# Altium integrated library Linear Technology Power Management Hot Swap Controllers.IntLib: 992 symbols (part 91 of 93)
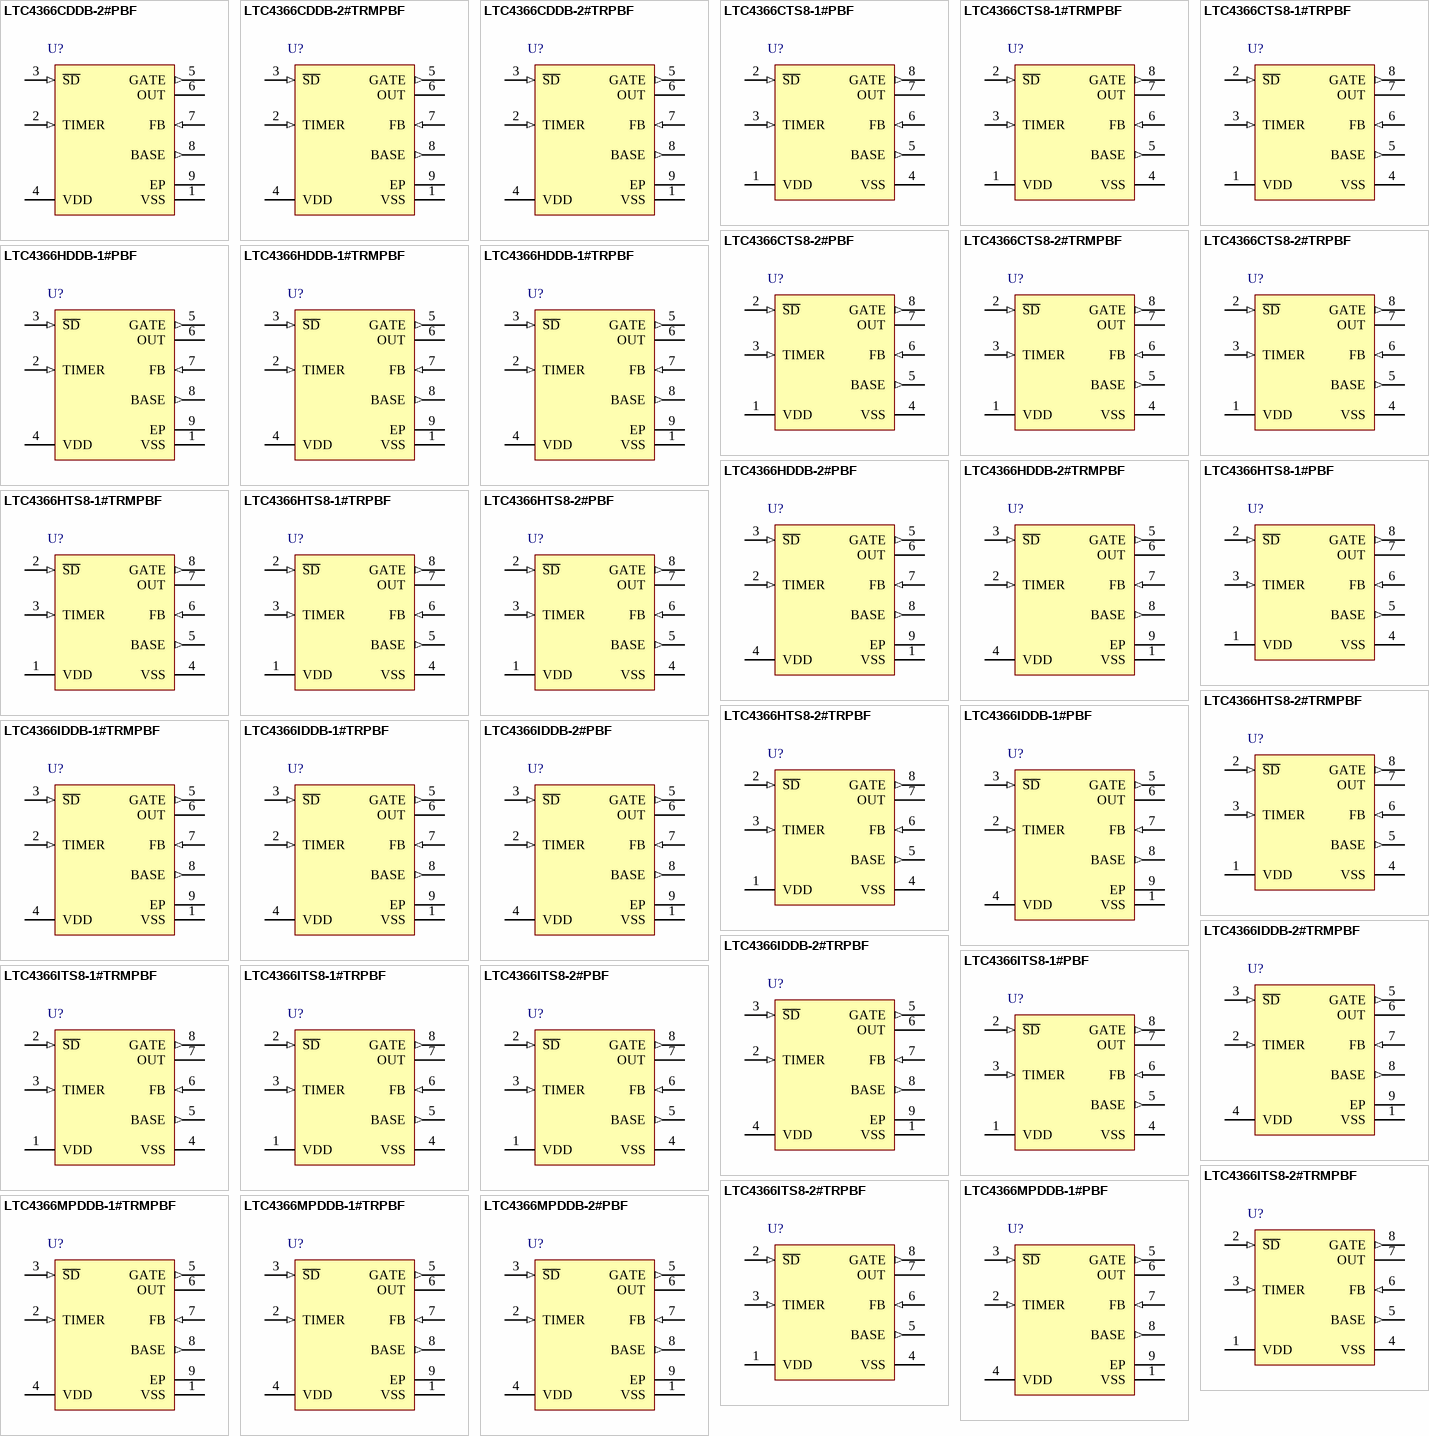
[diagram p127: symbols LTC4366CDDB-2#PBF to LTC4366MPDDB-2#PBF]

## LTC4366CTS8-2#TRMPBF
designator U?
High Voltage Surge Stopper, 9 to Over 500 V Vin, 8-pin SOT23 (TS8-8), 0 to 70 degC, Pb-Free, Mini Tape and Reel; Manufacturer: Linear Technology; PartNumber: LTC4366CTS8-2#TRMPBF; Circuit Breakers(#): 1; Extended Temp: C, I, H, MP; Fast Comparator: no; DatasheetVersion: Rev. C; PackageVersion: Rev. A, 08/2010; PackageReference: TS8-8; PackageDescription: 8-Pin Plastic TSOT-23, Body 2.9 x 1.63 mm, Pitch 0.65 mm; Supplier 1: Digi-Key; Supplier Part Number 1: LTC4366CTS8-2#TRMPBFTR-ND; Supplier 2: Digi-Key; Supplier Part Number 2: LTC4366CTS8-2#TRMPBFCT-ND; Supplier 3: Digi-Key; Supplier Part Number 3: LTC4366CTS8-2#TRMPBFDKR-ND; Supplier 4: Farnell; Supplier Part Number 4: 2097909; Packing: Mini Tape and Reel; Power Good: no; RoHS: TRUE; Vin Range: 9 to Over 500 V; Mounting Technology: Surface Mount; Code_JEDEC: MO-193; ComponentLink1Description: Manufacturer URL; ComponentLink1URL: http://www.linear.com/; ComponentLink2Description: Datasheet; ComponentLink2URL: http://cds.linear.com/docs/en/datasheet/436612fc.pdf; ComponentLink3Description: Package Specification; ComponentLink3URL: http://cds.linear.com/docs/en/packaging/SOT_8_05-08-1637.pdf
footprint LT-TS8-8-TSOT-23_V (SOT23, 8-Leads, Body 2.9x1.75mm, Pitch 0.65mm)
pins: 1 VDD (power) "Start-Up Supply. Supply input for 7.5uA start-up current source that charges the gate of the external N-channel MOSFET. Also provides supply for timer and logic circuits active when the external MOSFET is off. This pin is (See Datasheet)", 2 ~{SD} (in) "Shutdown Comparator Input. Tie to VDD if unused. Connect pin to a limited current pull down created by adding a resistor in series with an open-drain or open-collector pull-down transistor. Activating the external pull down (See Datasheet)", 3 TIMER (in) "Timer Input. Leave this pin open for a 1us overvoltage regulation period before fault off. Connect a capacitor between this pin and VSS to set a 278ms/uF duration for overvoltage regulation before the switch is turned off. (See Datasheet)", 4 VSS (power) "Device Return and Substrate. The capacitors on the TIMER and OUT pins should be returned to this pin.", 5 BASE (out) "Base Driver Output for External PNP Shunt Regulator. This pin is connected to the anode of an internal 6.2V Zener with the cathode tied to OUT. In cases where lower Q current is desired but a large VSS resistor is (See Datasheet)", 6 FB (in) "Overvoltage Regulation Amplifier Feedback Input. Connect this pin to an external resistive divider from OUT to ground. The overvoltage regulation amplifier controls the gate of the external N-channel MOSFET to regulate the (See Datasheet)", 7 OUT (power) "Charge Pump and Overvoltage Regulation Amplifier Supply Voltage. Supply input for floating circuitry powered from the MOSFET source. Once the OUT voltage is above 4.75V (UVLO2), the charge pump will turn on and draw power (See Datasheet)", 8 GATE (out) "Gate Drive for External N-Channel MOSFET. During start-up an internal 7.5uA current source charges the gate of the external N-channel MOSFET from the VDD pin. Once the OUT voltage is above VSS by 4.75V, the charge pump will (See Datasheet)"

## LTC4366CTS8-2#TRPBF
designator U?
High Voltage Surge Stopper, 9 to Over 500 V Vin, 8-pin SOT23 (TS8-8), 0 to 70 degC, Pb-Free, Tape and Reel; Manufacturer: Linear Technology; PartNumber: LTC4366CTS8-2#TRPBF; Circuit Breakers(#): 1; Extended Temp: C, I, H, MP; Fast Comparator: no; DatasheetVersion: Rev. C; PackageVersion: Rev. A, 08/2010; PackageReference: TS8-8; PackageDescription: 8-Pin Plastic TSOT-23, Body 2.9 x 1.63 mm, Pitch 0.65 mm; Supplier 1: Digi-Key; Supplier Part Number 1: LTC4366CTS8-2#TRPBF-ND; Packing: Tape and Reel; Power Good: no; RoHS: TRUE; Vin Range: 9 to Over 500 V; Mounting Technology: Surface Mount; Code_JEDEC: MO-193; ComponentLink1Description: Manufacturer URL; ComponentLink1URL: http://www.linear.com/; ComponentLink2Description: Datasheet; ComponentLink2URL: http://cds.linear.com/docs/en/datasheet/436612fc.pdf; ComponentLink3Description: Package Specification; ComponentLink3URL: http://cds.linear.com/docs/en/packaging/SOT_8_05-08-1637.pdf
footprint LT-TS8-8-TSOT-23_V (SOT23, 8-Leads, Body 2.9x1.75mm, Pitch 0.65mm)
pins: 1 VDD (power) "Start-Up Supply. Supply input for 7.5uA start-up current source that charges the gate of the external N-channel MOSFET. Also provides supply for timer and logic circuits active when the external MOSFET is off. This pin is (See Datasheet)", 2 ~{SD} (in) "Shutdown Comparator Input. Tie to VDD if unused. Connect pin to a limited current pull down created by adding a resistor in series with an open-drain or open-collector pull-down transistor. Activating the external pull down (See Datasheet)", 3 TIMER (in) "Timer Input. Leave this pin open for a 1us overvoltage regulation period before fault off. Connect a capacitor between this pin and VSS to set a 278ms/uF duration for overvoltage regulation before the switch is turned off. (See Datasheet)", 4 VSS (power) "Device Return and Substrate. The capacitors on the TIMER and OUT pins should be returned to this pin.", 5 BASE (out) "Base Driver Output for External PNP Shunt Regulator. This pin is connected to the anode of an internal 6.2V Zener with the cathode tied to OUT. In cases where lower Q current is desired but a large VSS resistor is (See Datasheet)", 6 FB (in) "Overvoltage Regulation Amplifier Feedback Input. Connect this pin to an external resistive divider from OUT to ground. The overvoltage regulation amplifier controls the gate of the external N-channel MOSFET to regulate the (See Datasheet)", 7 OUT (power) "Charge Pump and Overvoltage Regulation Amplifier Supply Voltage. Supply input for floating circuitry powered from the MOSFET source. Once the OUT voltage is above 4.75V (UVLO2), the charge pump will turn on and draw power (See Datasheet)", 8 GATE (out) "Gate Drive for External N-Channel MOSFET. During start-up an internal 7.5uA current source charges the gate of the external N-channel MOSFET from the VDD pin. Once the OUT voltage is above VSS by 4.75V, the charge pump will (See Datasheet)"

## LTC4366HDDB-1#PBF
designator U?
High Voltage Surge Stopper, 9 to Over 500 V Vin, 8-pin SON (DDB-8), -40 to 125 degC, Pb-Free; Manufacturer: Linear Technology; PartNumber: LTC4366HDDB-1#PBF; Circuit Breakers(#): 1; Extended Temp: C, I, H, MP; Fast Comparator: no; DatasheetVersion: Rev. C; PackageVersion: Rev. B, 06/2010; PackageReference: DDB-8; PackageDescription: 8-Pin Plastic DFN, Body 3 x 2 mm, Pitch 0.5 mm; Supplier 1: Newark; Supplier Part Number 1: 78T3401; Power Good: no; RoHS: TRUE; Vin Range: 9 to Over 500 V; Mounting Technology: Surface Mount; Code_JEDEC: MO-229; ComponentLink1Description: Manufacturer URL; ComponentLink1URL: http://www.linear.com/; ComponentLink2Description: Datasheet; ComponentLink2URL: http://cds.linear.com/docs/en/datasheet/436612fc.pdf; ComponentLink3Description: Package Specification; ComponentLink3URL: http://cds.linear.com/docs/en/packaging/DFN_8_05-08-1702.pdf
footprint LT-DDB-8_V (SON, 8-Leads, Body 3x2mm, Pitch 0.5mm, Thermal Pad 2.2x0.61mm)
pins: 1 VSS (power) "Device Return and Substrate. The capacitors on the TIMER and OUT pins should be returned to this pin.", 2 TIMER (in) "Timer Input. Leave this pin open for a 1us overvoltage regulation period before fault off. Connect a capacitor between this pin and VSS to set a 278ms/uF duration for overvoltage regulation before the switch is turned off. (See Datasheet)", 3 ~{SD} (in) "Shutdown Comparator Input. Tie to VDD if unused. Connect pin to a limited current pull down created by adding a resistor in series with an open-drain or open-collector pull-down transistor. Activating the external pull down (See Datasheet)", 4 VDD (power) "Start-Up Supply. Supply input for 7.5uA start-up current source that charges the gate of the external N-channel MOSFET. Also provides supply for timer and logic circuits active when the external MOSFET is off. This pin is (See Datasheet)", 5 GATE (out) "Gate Drive for External N-Channel MOSFET. During start-up an internal 7.5uA current source charges the gate of the external N-channel MOSFET from the VDD pin. Once the OUT voltage is above VSS by 4.75V, the charge pump will (See Datasheet)", 6 OUT (power) "Charge Pump and Overvoltage Regulation Amplifier Supply Voltage. Supply input for floating circuitry powered from the MOSFET source. Once the OUT voltage is above 4.75V (UVLO2), the charge pump will turn on and draw power (See Datasheet)", 7 FB (in) "Overvoltage Regulation Amplifier Feedback Input. Connect this pin to an external resistive divider from OUT to ground. The overvoltage regulation amplifier controls the gate of the external N-channel MOSFET to regulate the (See Datasheet)", 8 BASE (out) "Base Driver Output for External PNP Shunt Regulator. This pin is connected to the anode of an internal 6.2V Zener with the cathode tied to OUT. In cases where lower Q current is desired but a large VSS resistor is (See Datasheet)", 9 EP (power) "The exposed pad may be left open or connected to VSS."

## LTC4366HDDB-1#TRMPBF
designator U?
High Voltage Surge Stopper, 9 to Over 500 V Vin, 8-pin SON (DDB-8), -40 to 125 degC, Pb-Free, Mini Tape and Reel; Manufacturer: Linear Technology; PartNumber: LTC4366HDDB-1#TRMPBF; Circuit Breakers(#): 1; Extended Temp: C, I, H, MP; Fast Comparator: no; DatasheetVersion: Rev. C; PackageVersion: Rev. B, 06/2010; PackageReference: DDB-8; PackageDescription: 8-Pin Plastic DFN, Body 3 x 2 mm, Pitch 0.5 mm; Supplier 1: Digi-Key; Supplier Part Number 1: LTC4366HDDB-1#TRMPBFTR-ND; Supplier 2: Digi-Key; Supplier Part Number 2: LTC4366HDDB-1#TRMPBFCT-ND; Supplier 3: Digi-Key; Supplier Part Number 3: LTC4366HDDB-1#TRMPBFDKR-ND; Supplier 4: Farnell; Supplier Part Number 4: 2097913; Packing: Mini Tape and Reel; Power Good: no; RoHS: TRUE; Vin Range: 9 to Over 500 V; Mounting Technology: Surface Mount; Code_JEDEC: MO-229; ComponentLink1Description: Manufacturer URL; ComponentLink1URL: http://www.linear.com/; ComponentLink2Description: Datasheet; ComponentLink2URL: http://cds.linear.com/docs/en/datasheet/436612fc.pdf; ComponentLink3Description: Package Specification; ComponentLink3URL: http://cds.linear.com/docs/en/packaging/DFN_8_05-08-1702.pdf
footprint LT-DDB-8_V (SON, 8-Leads, Body 3x2mm, Pitch 0.5mm, Thermal Pad 2.2x0.61mm)
pins: 1 VSS (power) "Device Return and Substrate. The capacitors on the TIMER and OUT pins should be returned to this pin.", 2 TIMER (in) "Timer Input. Leave this pin open for a 1us overvoltage regulation period before fault off. Connect a capacitor between this pin and VSS to set a 278ms/uF duration for overvoltage regulation before the switch is turned off. (See Datasheet)", 3 ~{SD} (in) "Shutdown Comparator Input. Tie to VDD if unused. Connect pin to a limited current pull down created by adding a resistor in series with an open-drain or open-collector pull-down transistor. Activating the external pull down (See Datasheet)", 4 VDD (power) "Start-Up Supply. Supply input for 7.5uA start-up current source that charges the gate of the external N-channel MOSFET. Also provides supply for timer and logic circuits active when the external MOSFET is off. This pin is (See Datasheet)", 5 GATE (out) "Gate Drive for External N-Channel MOSFET. During start-up an internal 7.5uA current source charges the gate of the external N-channel MOSFET from the VDD pin. Once the OUT voltage is above VSS by 4.75V, the charge pump will (See Datasheet)", 6 OUT (power) "Charge Pump and Overvoltage Regulation Amplifier Supply Voltage. Supply input for floating circuitry powered from the MOSFET source. Once the OUT voltage is above 4.75V (UVLO2), the charge pump will turn on and draw power (See Datasheet)", 7 FB (in) "Overvoltage Regulation Amplifier Feedback Input. Connect this pin to an external resistive divider from OUT to ground. The overvoltage regulation amplifier controls the gate of the external N-channel MOSFET to regulate the (See Datasheet)", 8 BASE (out) "Base Driver Output for External PNP Shunt Regulator. This pin is connected to the anode of an internal 6.2V Zener with the cathode tied to OUT. In cases where lower Q current is desired but a large VSS resistor is (See Datasheet)", 9 EP (power) "The exposed pad may be left open or connected to VSS."

## LTC4366HDDB-1#TRPBF
designator U?
High Voltage Surge Stopper, 9 to Over 500 V Vin, 8-pin SON (DDB-8), -40 to 125 degC, Pb-Free, Tape and Reel; Manufacturer: Linear Technology; PartNumber: LTC4366HDDB-1#TRPBF; Circuit Breakers(#): 1; Extended Temp: C, I, H, MP; Fast Comparator: no; DatasheetVersion: Rev. C; PackageVersion: Rev. B, 06/2010; PackageReference: DDB-8; PackageDescription: 8-Pin Plastic DFN, Body 3 x 2 mm, Pitch 0.5 mm; Supplier 1: Digi-Key; Supplier Part Number 1: LTC4366HDDB-1#TRPBF-ND; Packing: Tape and Reel; Power Good: no; RoHS: TRUE; Vin Range: 9 to Over 500 V; Mounting Technology: Surface Mount; Code_JEDEC: MO-229; ComponentLink1Description: Manufacturer URL; ComponentLink1URL: http://www.linear.com/; ComponentLink2Description: Datasheet; ComponentLink2URL: http://cds.linear.com/docs/en/datasheet/436612fc.pdf; ComponentLink3Description: Package Specification; ComponentLink3URL: http://cds.linear.com/docs/en/packaging/DFN_8_05-08-1702.pdf
footprint LT-DDB-8_V (SON, 8-Leads, Body 3x2mm, Pitch 0.5mm, Thermal Pad 2.2x0.61mm)
pins: 1 VSS (power) "Device Return and Substrate. The capacitors on the TIMER and OUT pins should be returned to this pin.", 2 TIMER (in) "Timer Input. Leave this pin open for a 1us overvoltage regulation period before fault off. Connect a capacitor between this pin and VSS to set a 278ms/uF duration for overvoltage regulation before the switch is turned off. (See Datasheet)", 3 ~{SD} (in) "Shutdown Comparator Input. Tie to VDD if unused. Connect pin to a limited current pull down created by adding a resistor in series with an open-drain or open-collector pull-down transistor. Activating the external pull down (See Datasheet)", 4 VDD (power) "Start-Up Supply. Supply input for 7.5uA start-up current source that charges the gate of the external N-channel MOSFET. Also provides supply for timer and logic circuits active when the external MOSFET is off. This pin is (See Datasheet)", 5 GATE (out) "Gate Drive for External N-Channel MOSFET. During start-up an internal 7.5uA current source charges the gate of the external N-channel MOSFET from the VDD pin. Once the OUT voltage is above VSS by 4.75V, the charge pump will (See Datasheet)", 6 OUT (power) "Charge Pump and Overvoltage Regulation Amplifier Supply Voltage. Supply input for floating circuitry powered from the MOSFET source. Once the OUT voltage is above 4.75V (UVLO2), the charge pump will turn on and draw power (See Datasheet)", 7 FB (in) "Overvoltage Regulation Amplifier Feedback Input. Connect this pin to an external resistive divider from OUT to ground. The overvoltage regulation amplifier controls the gate of the external N-channel MOSFET to regulate the (See Datasheet)", 8 BASE (out) "Base Driver Output for External PNP Shunt Regulator. This pin is connected to the anode of an internal 6.2V Zener with the cathode tied to OUT. In cases where lower Q current is desired but a large VSS resistor is (See Datasheet)", 9 EP (power) "The exposed pad may be left open or connected to VSS."

## LTC4366HDDB-2#PBF
designator U?
High Voltage Surge Stopper, 9 to Over 500 V Vin, 8-pin SON (DDB-8), -40 to 125 degC, Pb-Free; Manufacturer: Linear Technology; PartNumber: LTC4366HDDB-2#PBF; Circuit Breakers(#): 1; Extended Temp: C, I, H, MP; Fast Comparator: no; DatasheetVersion: Rev. C; PackageVersion: Rev. B, 06/2010; PackageReference: DDB-8; PackageDescription: 8-Pin Plastic DFN, Body 3 x 2 mm, Pitch 0.5 mm; Power Good: no; RoHS: TRUE; Vin Range: 9 to Over 500 V; Mounting Technology: Surface Mount; Code_JEDEC: MO-229; ComponentLink1Description: Manufacturer URL; ComponentLink1URL: http://www.linear.com/; ComponentLink2Description: Datasheet; ComponentLink2URL: http://cds.linear.com/docs/en/datasheet/436612fc.pdf; ComponentLink3Description: Package Specification; ComponentLink3URL: http://cds.linear.com/docs/en/packaging/DFN_8_05-08-1702.pdf
footprint LT-DDB-8_V (SON, 8-Leads, Body 3x2mm, Pitch 0.5mm, Thermal Pad 2.2x0.61mm)
pins: 1 VSS (power) "Device Return and Substrate. The capacitors on the TIMER and OUT pins should be returned to this pin.", 2 TIMER (in) "Timer Input. Leave this pin open for a 1us overvoltage regulation period before fault off. Connect a capacitor between this pin and VSS to set a 278ms/uF duration for overvoltage regulation before the switch is turned off. (See Datasheet)", 3 ~{SD} (in) "Shutdown Comparator Input. Tie to VDD if unused. Connect pin to a limited current pull down created by adding a resistor in series with an open-drain or open-collector pull-down transistor. Activating the external pull down (See Datasheet)", 4 VDD (power) "Start-Up Supply. Supply input for 7.5uA start-up current source that charges the gate of the external N-channel MOSFET. Also provides supply for timer and logic circuits active when the external MOSFET is off. This pin is (See Datasheet)", 5 GATE (out) "Gate Drive for External N-Channel MOSFET. During start-up an internal 7.5uA current source charges the gate of the external N-channel MOSFET from the VDD pin. Once the OUT voltage is above VSS by 4.75V, the charge pump will (See Datasheet)", 6 OUT (power) "Charge Pump and Overvoltage Regulation Amplifier Supply Voltage. Supply input for floating circuitry powered from the MOSFET source. Once the OUT voltage is above 4.75V (UVLO2), the charge pump will turn on and draw power (See Datasheet)", 7 FB (in) "Overvoltage Regulation Amplifier Feedback Input. Connect this pin to an external resistive divider from OUT to ground. The overvoltage regulation amplifier controls the gate of the external N-channel MOSFET to regulate the (See Datasheet)", 8 BASE (out) "Base Driver Output for External PNP Shunt Regulator. This pin is connected to the anode of an internal 6.2V Zener with the cathode tied to OUT. In cases where lower Q current is desired but a large VSS resistor is (See Datasheet)", 9 EP (power) "The exposed pad may be left open or connected to VSS."

## LTC4366HDDB-2#TRMPBF
designator U?
High Voltage Surge Stopper, 9 to Over 500 V Vin, 8-pin SON (DDB-8), -40 to 125 degC, Pb-Free, Mini Tape and Reel; Manufacturer: Linear Technology; PartNumber: LTC4366HDDB-2#TRMPBF; Circuit Breakers(#): 1; Extended Temp: C, I, H, MP; Fast Comparator: no; DatasheetVersion: Rev. C; PackageVersion: Rev. B, 06/2010; PackageReference: DDB-8; PackageDescription: 8-Pin Plastic DFN, Body 3 x 2 mm, Pitch 0.5 mm; Supplier 1: Digi-Key; Supplier Part Number 1: LTC4366HDDB-2#TRMPBF-ND; Supplier 2: Newark; Supplier Part Number 2: 87T7308; Packing: Mini Tape and Reel; Power Good: no; RoHS: TRUE; Vin Range: 9 to Over 500 V; Mounting Technology: Surface Mount; Code_JEDEC: MO-229; ComponentLink1Description: Manufacturer URL; ComponentLink1URL: http://www.linear.com/; ComponentLink2Description: Datasheet; ComponentLink2URL: http://cds.linear.com/docs/en/datasheet/436612fc.pdf; ComponentLink3Description: Package Specification; ComponentLink3URL: http://cds.linear.com/docs/en/packaging/DFN_8_05-08-1702.pdf
footprint LT-DDB-8_V (SON, 8-Leads, Body 3x2mm, Pitch 0.5mm, Thermal Pad 2.2x0.61mm)
pins: 1 VSS (power) "Device Return and Substrate. The capacitors on the TIMER and OUT pins should be returned to this pin.", 2 TIMER (in) "Timer Input. Leave this pin open for a 1us overvoltage regulation period before fault off. Connect a capacitor between this pin and VSS to set a 278ms/uF duration for overvoltage regulation before the switch is turned off. (See Datasheet)", 3 ~{SD} (in) "Shutdown Comparator Input. Tie to VDD if unused. Connect pin to a limited current pull down created by adding a resistor in series with an open-drain or open-collector pull-down transistor. Activating the external pull down (See Datasheet)", 4 VDD (power) "Start-Up Supply. Supply input for 7.5uA start-up current source that charges the gate of the external N-channel MOSFET. Also provides supply for timer and logic circuits active when the external MOSFET is off. This pin is (See Datasheet)", 5 GATE (out) "Gate Drive for External N-Channel MOSFET. During start-up an internal 7.5uA current source charges the gate of the external N-channel MOSFET from the VDD pin. Once the OUT voltage is above VSS by 4.75V, the charge pump will (See Datasheet)", 6 OUT (power) "Charge Pump and Overvoltage Regulation Amplifier Supply Voltage. Supply input for floating circuitry powered from the MOSFET source. Once the OUT voltage is above 4.75V (UVLO2), the charge pump will turn on and draw power (See Datasheet)", 7 FB (in) "Overvoltage Regulation Amplifier Feedback Input. Connect this pin to an external resistive divider from OUT to ground. The overvoltage regulation amplifier controls the gate of the external N-channel MOSFET to regulate the (See Datasheet)", 8 BASE (out) "Base Driver Output for External PNP Shunt Regulator. This pin is connected to the anode of an internal 6.2V Zener with the cathode tied to OUT. In cases where lower Q current is desired but a large VSS resistor is (See Datasheet)", 9 EP (power) "The exposed pad may be left open or connected to VSS."

## LTC4366HTS8-1#PBF
designator U?
High Voltage Surge Stopper, 9 to Over 500 V Vin, 8-pin SOT23 (TS8-8), -40 to 125 degC, Pb-Free; Manufacturer: Linear Technology; PartNumber: LTC4366HTS8-1#PBF; Circuit Breakers(#): 1; Extended Temp: C, I, H, MP; Fast Comparator: no; DatasheetVersion: Rev. C; PackageVersion: Rev. A, 08/2010; PackageReference: TS8-8; PackageDescription: 8-Pin Plastic TSOT-23, Body 2.9 x 1.63 mm, Pitch 0.65 mm; Power Good: no; RoHS: TRUE; Vin Range: 9 to Over 500 V; Mounting Technology: Surface Mount; Code_JEDEC: MO-193; ComponentLink1Description: Manufacturer URL; ComponentLink1URL: http://www.linear.com/; ComponentLink2Description: Datasheet; ComponentLink2URL: http://cds.linear.com/docs/en/datasheet/436612fc.pdf; ComponentLink3Description: Package Specification; ComponentLink3URL: http://cds.linear.com/docs/en/packaging/SOT_8_05-08-1637.pdf
footprint LT-TS8-8-TSOT-23_V (SOT23, 8-Leads, Body 2.9x1.75mm, Pitch 0.65mm)
pins: 1 VDD (power) "Start-Up Supply. Supply input for 7.5uA start-up current source that charges the gate of the external N-channel MOSFET. Also provides supply for timer and logic circuits active when the external MOSFET is off. This pin is (See Datasheet)", 2 ~{SD} (in) "Shutdown Comparator Input. Tie to VDD if unused. Connect pin to a limited current pull down created by adding a resistor in series with an open-drain or open-collector pull-down transistor. Activating the external pull down (See Datasheet)", 3 TIMER (in) "Timer Input. Leave this pin open for a 1us overvoltage regulation period before fault off. Connect a capacitor between this pin and VSS to set a 278ms/uF duration for overvoltage regulation before the switch is turned off. (See Datasheet)", 4 VSS (power) "Device Return and Substrate. The capacitors on the TIMER and OUT pins should be returned to this pin.", 5 BASE (out) "Base Driver Output for External PNP Shunt Regulator. This pin is connected to the anode of an internal 6.2V Zener with the cathode tied to OUT. In cases where lower Q current is desired but a large VSS resistor is (See Datasheet)", 6 FB (in) "Overvoltage Regulation Amplifier Feedback Input. Connect this pin to an external resistive divider from OUT to ground. The overvoltage regulation amplifier controls the gate of the external N-channel MOSFET to regulate the (See Datasheet)", 7 OUT (power) "Charge Pump and Overvoltage Regulation Amplifier Supply Voltage. Supply input for floating circuitry powered from the MOSFET source. Once the OUT voltage is above 4.75V (UVLO2), the charge pump will turn on and draw power (See Datasheet)", 8 GATE (out) "Gate Drive for External N-Channel MOSFET. During start-up an internal 7.5uA current source charges the gate of the external N-channel MOSFET from the VDD pin. Once the OUT voltage is above VSS by 4.75V, the charge pump will (See Datasheet)"

## LTC4366HTS8-1#TRMPBF
designator U?
High Voltage Surge Stopper, 9 to Over 500 V Vin, 8-pin SOT23 (TS8-8), -40 to 125 degC, Pb-Free, Mini Tape and Reel; Manufacturer: Linear Technology; PartNumber: LTC4366HTS8-1#TRMPBF; Circuit Breakers(#): 1; Extended Temp: C, I, H, MP; Fast Comparator: no; DatasheetVersion: Rev. C; PackageVersion: Rev. A, 08/2010; PackageReference: TS8-8; PackageDescription: 8-Pin Plastic TSOT-23, Body 2.9 x 1.63 mm, Pitch 0.65 mm; Supplier 1: Digi-Key; Supplier Part Number 1: LTC4366HTS8-1#TRMPBFTR-ND; Supplier 2: Digi-Key; Supplier Part Number 2: LTC4366HTS8-1#TRMPBFCT-ND; Supplier 3: Digi-Key; Supplier Part Number 3: LTC4366HTS8-1#TRMPBFDKR-ND; Supplier 4: Farnell; Supplier Part Number 4: 2097917; Packing: Mini Tape and Reel; Power Good: no; RoHS: TRUE; Vin Range: 9 to Over 500 V; Mounting Technology: Surface Mount; Code_JEDEC: MO-193; ComponentLink1Description: Manufacturer URL; ComponentLink1URL: http://www.linear.com/; ComponentLink2Description: Datasheet; ComponentLink2URL: http://cds.linear.com/docs/en/datasheet/436612fc.pdf; ComponentLink3Description: Package Specification; ComponentLink3URL: http://cds.linear.com/docs/en/packaging/SOT_8_05-08-1637.pdf
footprint LT-TS8-8-TSOT-23_V (SOT23, 8-Leads, Body 2.9x1.75mm, Pitch 0.65mm)
pins: 1 VDD (power) "Start-Up Supply. Supply input for 7.5uA start-up current source that charges the gate of the external N-channel MOSFET. Also provides supply for timer and logic circuits active when the external MOSFET is off. This pin is (See Datasheet)", 2 ~{SD} (in) "Shutdown Comparator Input. Tie to VDD if unused. Connect pin to a limited current pull down created by adding a resistor in series with an open-drain or open-collector pull-down transistor. Activating the external pull down (See Datasheet)", 3 TIMER (in) "Timer Input. Leave this pin open for a 1us overvoltage regulation period before fault off. Connect a capacitor between this pin and VSS to set a 278ms/uF duration for overvoltage regulation before the switch is turned off. (See Datasheet)", 4 VSS (power) "Device Return and Substrate. The capacitors on the TIMER and OUT pins should be returned to this pin.", 5 BASE (out) "Base Driver Output for External PNP Shunt Regulator. This pin is connected to the anode of an internal 6.2V Zener with the cathode tied to OUT. In cases where lower Q current is desired but a large VSS resistor is (See Datasheet)", 6 FB (in) "Overvoltage Regulation Amplifier Feedback Input. Connect this pin to an external resistive divider from OUT to ground. The overvoltage regulation amplifier controls the gate of the external N-channel MOSFET to regulate the (See Datasheet)", 7 OUT (power) "Charge Pump and Overvoltage Regulation Amplifier Supply Voltage. Supply input for floating circuitry powered from the MOSFET source. Once the OUT voltage is above 4.75V (UVLO2), the charge pump will turn on and draw power (See Datasheet)", 8 GATE (out) "Gate Drive for External N-Channel MOSFET. During start-up an internal 7.5uA current source charges the gate of the external N-channel MOSFET from the VDD pin. Once the OUT voltage is above VSS by 4.75V, the charge pump will (See Datasheet)"

## LTC4366HTS8-1#TRPBF
designator U?
High Voltage Surge Stopper, 9 to Over 500 V Vin, 8-pin SOT23 (TS8-8), -40 to 125 degC, Pb-Free, Tape and Reel; Manufacturer: Linear Technology; PartNumber: LTC4366HTS8-1#TRPBF; Circuit Breakers(#): 1; Extended Temp: C, I, H, MP; Fast Comparator: no; DatasheetVersion: Rev. C; PackageVersion: Rev. A, 08/2010; PackageReference: TS8-8; PackageDescription: 8-Pin Plastic TSOT-23, Body 2.9 x 1.63 mm, Pitch 0.65 mm; Supplier 1: Digi-Key; Supplier Part Number 1: LTC4366HTS8-1#TRPBF-ND; Packing: Tape and Reel; Power Good: no; RoHS: TRUE; Vin Range: 9 to Over 500 V; Mounting Technology: Surface Mount; Code_JEDEC: MO-193; ComponentLink1Description: Manufacturer URL; ComponentLink1URL: http://www.linear.com/; ComponentLink2Description: Datasheet; ComponentLink2URL: http://cds.linear.com/docs/en/datasheet/436612fc.pdf; ComponentLink3Description: Package Specification; ComponentLink3URL: http://cds.linear.com/docs/en/packaging/SOT_8_05-08-1637.pdf
footprint LT-TS8-8-TSOT-23_V (SOT23, 8-Leads, Body 2.9x1.75mm, Pitch 0.65mm)
pins: 1 VDD (power) "Start-Up Supply. Supply input for 7.5uA start-up current source that charges the gate of the external N-channel MOSFET. Also provides supply for timer and logic circuits active when the external MOSFET is off. This pin is (See Datasheet)", 2 ~{SD} (in) "Shutdown Comparator Input. Tie to VDD if unused. Connect pin to a limited current pull down created by adding a resistor in series with an open-drain or open-collector pull-down transistor. Activating the external pull down (See Datasheet)", 3 TIMER (in) "Timer Input. Leave this pin open for a 1us overvoltage regulation period before fault off. Connect a capacitor between this pin and VSS to set a 278ms/uF duration for overvoltage regulation before the switch is turned off. (See Datasheet)", 4 VSS (power) "Device Return and Substrate. The capacitors on the TIMER and OUT pins should be returned to this pin.", 5 BASE (out) "Base Driver Output for External PNP Shunt Regulator. This pin is connected to the anode of an internal 6.2V Zener with the cathode tied to OUT. In cases where lower Q current is desired but a large VSS resistor is (See Datasheet)", 6 FB (in) "Overvoltage Regulation Amplifier Feedback Input. Connect this pin to an external resistive divider from OUT to ground. The overvoltage regulation amplifier controls the gate of the external N-channel MOSFET to regulate the (See Datasheet)", 7 OUT (power) "Charge Pump and Overvoltage Regulation Amplifier Supply Voltage. Supply input for floating circuitry powered from the MOSFET source. Once the OUT voltage is above 4.75V (UVLO2), the charge pump will turn on and draw power (See Datasheet)", 8 GATE (out) "Gate Drive for External N-Channel MOSFET. During start-up an internal 7.5uA current source charges the gate of the external N-channel MOSFET from the VDD pin. Once the OUT voltage is above VSS by 4.75V, the charge pump will (See Datasheet)"

## LTC4366HTS8-2#PBF
designator U?
High Voltage Surge Stopper, 9 to Over 500 V Vin, 8-pin SOT23 (TS8-8), -40 to 125 degC, Pb-Free; Manufacturer: Linear Technology; PartNumber: LTC4366HTS8-2#PBF; Circuit Breakers(#): 1; Extended Temp: C, I, H, MP; Fast Comparator: no; DatasheetVersion: Rev. C; PackageVersion: Rev. A, 08/2010; PackageReference: TS8-8; PackageDescription: 8-Pin Plastic TSOT-23, Body 2.9 x 1.63 mm, Pitch 0.65 mm; Supplier 1: Farnell; Supplier Part Number 1: 2308160; Supplier 2: Newark; Supplier Part Number 2: 78T3407; Power Good: no; RoHS: TRUE; Vin Range: 9 to Over 500 V; Mounting Technology: Surface Mount; Code_JEDEC: MO-193; ComponentLink1Description: Manufacturer URL; ComponentLink1URL: http://www.linear.com/; ComponentLink2Description: Datasheet; ComponentLink2URL: http://cds.linear.com/docs/en/datasheet/436612fc.pdf; ComponentLink3Description: Package Specification; ComponentLink3URL: http://cds.linear.com/docs/en/packaging/SOT_8_05-08-1637.pdf
footprint LT-TS8-8-TSOT-23_V (SOT23, 8-Leads, Body 2.9x1.75mm, Pitch 0.65mm)
pins: 1 VDD (power) "Start-Up Supply. Supply input for 7.5uA start-up current source that charges the gate of the external N-channel MOSFET. Also provides supply for timer and logic circuits active when the external MOSFET is off. This pin is (See Datasheet)", 2 ~{SD} (in) "Shutdown Comparator Input. Tie to VDD if unused. Connect pin to a limited current pull down created by adding a resistor in series with an open-drain or open-collector pull-down transistor. Activating the external pull down (See Datasheet)", 3 TIMER (in) "Timer Input. Leave this pin open for a 1us overvoltage regulation period before fault off. Connect a capacitor between this pin and VSS to set a 278ms/uF duration for overvoltage regulation before the switch is turned off. (See Datasheet)", 4 VSS (power) "Device Return and Substrate. The capacitors on the TIMER and OUT pins should be returned to this pin.", 5 BASE (out) "Base Driver Output for External PNP Shunt Regulator. This pin is connected to the anode of an internal 6.2V Zener with the cathode tied to OUT. In cases where lower Q current is desired but a large VSS resistor is (See Datasheet)", 6 FB (in) "Overvoltage Regulation Amplifier Feedback Input. Connect this pin to an external resistive divider from OUT to ground. The overvoltage regulation amplifier controls the gate of the external N-channel MOSFET to regulate the (See Datasheet)", 7 OUT (power) "Charge Pump and Overvoltage Regulation Amplifier Supply Voltage. Supply input for floating circuitry powered from the MOSFET source. Once the OUT voltage is above 4.75V (UVLO2), the charge pump will turn on and draw power (See Datasheet)", 8 GATE (out) "Gate Drive for External N-Channel MOSFET. During start-up an internal 7.5uA current source charges the gate of the external N-channel MOSFET from the VDD pin. Once the OUT voltage is above VSS by 4.75V, the charge pump will (See Datasheet)"

## LTC4366HTS8-2#TRMPBF
designator U?
High Voltage Surge Stopper, 9 to Over 500 V Vin, 8-pin SOT23 (TS8-8), -40 to 125 degC, Pb-Free, Mini Tape and Reel; Manufacturer: Linear Technology; PartNumber: LTC4366HTS8-2#TRMPBF; Circuit Breakers(#): 1; Extended Temp: C, I, H, MP; Fast Comparator: no; DatasheetVersion: Rev. C; PackageVersion: Rev. A, 08/2010; PackageReference: TS8-8; PackageDescription: 8-Pin Plastic TSOT-23, Body 2.9 x 1.63 mm, Pitch 0.65 mm; Supplier 1: Digi-Key; Supplier Part Number 1: LTC4366HTS8-2#TRMPBFTR-ND; Supplier 2: Digi-Key; Supplier Part Number 2: LTC4366HTS8-2#TRMPBFCT-ND; Supplier 3: Digi-Key; Supplier Part Number 3: LTC4366HTS8-2#TRMPBFDKR-ND; Supplier 4: Farnell; Supplier Part Number 4: 2097910; Supplier 5: Newark; Supplier Part Number 5: 78T3408; Packing: Mini Tape and Reel; Power Good: no; RoHS: TRUE; Vin Range: 9 to Over 500 V; Mounting Technology: Surface Mount; Code_JEDEC: MO-193; ComponentLink1Description: Manufacturer URL; ComponentLink1URL: http://www.linear.com/; ComponentLink2Description: Datasheet; ComponentLink2URL: http://cds.linear.com/docs/en/datasheet/436612fc.pdf; ComponentLink3Description: Package Specification; ComponentLink3URL: http://cds.linear.com/docs/en/packaging/SOT_8_05-08-1637.pdf
footprint LT-TS8-8-TSOT-23_V (SOT23, 8-Leads, Body 2.9x1.75mm, Pitch 0.65mm)
pins: 1 VDD (power) "Start-Up Supply. Supply input for 7.5uA start-up current source that charges the gate of the external N-channel MOSFET. Also provides supply for timer and logic circuits active when the external MOSFET is off. This pin is (See Datasheet)", 2 ~{SD} (in) "Shutdown Comparator Input. Tie to VDD if unused. Connect pin to a limited current pull down created by adding a resistor in series with an open-drain or open-collector pull-down transistor. Activating the external pull down (See Datasheet)", 3 TIMER (in) "Timer Input. Leave this pin open for a 1us overvoltage regulation period before fault off. Connect a capacitor between this pin and VSS to set a 278ms/uF duration for overvoltage regulation before the switch is turned off. (See Datasheet)", 4 VSS (power) "Device Return and Substrate. The capacitors on the TIMER and OUT pins should be returned to this pin.", 5 BASE (out) "Base Driver Output for External PNP Shunt Regulator. This pin is connected to the anode of an internal 6.2V Zener with the cathode tied to OUT. In cases where lower Q current is desired but a large VSS resistor is (See Datasheet)", 6 FB (in) "Overvoltage Regulation Amplifier Feedback Input. Connect this pin to an external resistive divider from OUT to ground. The overvoltage regulation amplifier controls the gate of the external N-channel MOSFET to regulate the (See Datasheet)", 7 OUT (power) "Charge Pump and Overvoltage Regulation Amplifier Supply Voltage. Supply input for floating circuitry powered from the MOSFET source. Once the OUT voltage is above 4.75V (UVLO2), the charge pump will turn on and draw power (See Datasheet)", 8 GATE (out) "Gate Drive for External N-Channel MOSFET. During start-up an internal 7.5uA current source charges the gate of the external N-channel MOSFET from the VDD pin. Once the OUT voltage is above VSS by 4.75V, the charge pump will (See Datasheet)"

## LTC4366HTS8-2#TRPBF
designator U?
High Voltage Surge Stopper, 9 to Over 500 V Vin, 8-pin SOT23 (TS8-8), -40 to 125 degC, Pb-Free, Tape and Reel; Manufacturer: Linear Technology; PartNumber: LTC4366HTS8-2#TRPBF; Circuit Breakers(#): 1; Extended Temp: C, I, H, MP; Fast Comparator: no; DatasheetVersion: Rev. C; PackageVersion: Rev. A, 08/2010; PackageReference: TS8-8; PackageDescription: 8-Pin Plastic TSOT-23, Body 2.9 x 1.63 mm, Pitch 0.65 mm; Supplier 1: Digi-Key; Supplier Part Number 1: LTC4366HTS8-2#TRPBF-ND; Packing: Tape and Reel; Power Good: no; RoHS: TRUE; Vin Range: 9 to Over 500 V; Mounting Technology: Surface Mount; Code_JEDEC: MO-193; ComponentLink1Description: Manufacturer URL; ComponentLink1URL: http://www.linear.com/; ComponentLink2Description: Datasheet; ComponentLink2URL: http://cds.linear.com/docs/en/datasheet/436612fc.pdf; ComponentLink3Description: Package Specification; ComponentLink3URL: http://cds.linear.com/docs/en/packaging/SOT_8_05-08-1637.pdf
footprint LT-TS8-8-TSOT-23_V (SOT23, 8-Leads, Body 2.9x1.75mm, Pitch 0.65mm)
pins: 1 VDD (power) "Start-Up Supply. Supply input for 7.5uA start-up current source that charges the gate of the external N-channel MOSFET. Also provides supply for timer and logic circuits active when the external MOSFET is off. This pin is (See Datasheet)", 2 ~{SD} (in) "Shutdown Comparator Input. Tie to VDD if unused. Connect pin to a limited current pull down created by adding a resistor in series with an open-drain or open-collector pull-down transistor. Activating the external pull down (See Datasheet)", 3 TIMER (in) "Timer Input. Leave this pin open for a 1us overvoltage regulation period before fault off. Connect a capacitor between this pin and VSS to set a 278ms/uF duration for overvoltage regulation before the switch is turned off. (See Datasheet)", 4 VSS (power) "Device Return and Substrate. The capacitors on the TIMER and OUT pins should be returned to this pin.", 5 BASE (out) "Base Driver Output for External PNP Shunt Regulator. This pin is connected to the anode of an internal 6.2V Zener with the cathode tied to OUT. In cases where lower Q current is desired but a large VSS resistor is (See Datasheet)", 6 FB (in) "Overvoltage Regulation Amplifier Feedback Input. Connect this pin to an external resistive divider from OUT to ground. The overvoltage regulation amplifier controls the gate of the external N-channel MOSFET to regulate the (See Datasheet)", 7 OUT (power) "Charge Pump and Overvoltage Regulation Amplifier Supply Voltage. Supply input for floating circuitry powered from the MOSFET source. Once the OUT voltage is above 4.75V (UVLO2), the charge pump will turn on and draw power (See Datasheet)", 8 GATE (out) "Gate Drive for External N-Channel MOSFET. During start-up an internal 7.5uA current source charges the gate of the external N-channel MOSFET from the VDD pin. Once the OUT voltage is above VSS by 4.75V, the charge pump will (See Datasheet)"

## LTC4366IDDB-1#PBF
designator U?
High Voltage Surge Stopper, 9 to Over 500 V Vin, 8-pin SON (DDB-8), -40 to 85 degC, Pb-Free; Manufacturer: Linear Technology; PartNumber: LTC4366IDDB-1#PBF; Circuit Breakers(#): 1; Extended Temp: C, I, H, MP; Fast Comparator: no; DatasheetVersion: Rev. C; PackageVersion: Rev. B, 06/2010; PackageReference: DDB-8; PackageDescription: 8-Pin Plastic DFN, Body 3 x 2 mm, Pitch 0.5 mm; Supplier 1: Farnell; Supplier Part Number 1: 2095782; Supplier 2: Newark; Supplier Part Number 2: 78T3410; Power Good: no; RoHS: TRUE; Vin Range: 9 to Over 500 V; Mounting Technology: Surface Mount; Code_JEDEC: MO-229; ComponentLink1Description: Manufacturer URL; ComponentLink1URL: http://www.linear.com/; ComponentLink2Description: Datasheet; ComponentLink2URL: http://cds.linear.com/docs/en/datasheet/436612fc.pdf; ComponentLink3Description: Package Specification; ComponentLink3URL: http://cds.linear.com/docs/en/packaging/DFN_8_05-08-1702.pdf
footprint LT-DDB-8_V (SON, 8-Leads, Body 3x2mm, Pitch 0.5mm, Thermal Pad 2.2x0.61mm)
pins: 1 VSS (power) "Device Return and Substrate. The capacitors on the TIMER and OUT pins should be returned to this pin.", 2 TIMER (in) "Timer Input. Leave this pin open for a 1us overvoltage regulation period before fault off. Connect a capacitor between this pin and VSS to set a 278ms/uF duration for overvoltage regulation before the switch is turned off. (See Datasheet)", 3 ~{SD} (in) "Shutdown Comparator Input. Tie to VDD if unused. Connect pin to a limited current pull down created by adding a resistor in series with an open-drain or open-collector pull-down transistor. Activating the external pull down (See Datasheet)", 4 VDD (power) "Start-Up Supply. Supply input for 7.5uA start-up current source that charges the gate of the external N-channel MOSFET. Also provides supply for timer and logic circuits active when the external MOSFET is off. This pin is (See Datasheet)", 5 GATE (out) "Gate Drive for External N-Channel MOSFET. During start-up an internal 7.5uA current source charges the gate of the external N-channel MOSFET from the VDD pin. Once the OUT voltage is above VSS by 4.75V, the charge pump will (See Datasheet)", 6 OUT (power) "Charge Pump and Overvoltage Regulation Amplifier Supply Voltage. Supply input for floating circuitry powered from the MOSFET source. Once the OUT voltage is above 4.75V (UVLO2), the charge pump will turn on and draw power (See Datasheet)", 7 FB (in) "Overvoltage Regulation Amplifier Feedback Input. Connect this pin to an external resistive divider from OUT to ground. The overvoltage regulation amplifier controls the gate of the external N-channel MOSFET to regulate the (See Datasheet)", 8 BASE (out) "Base Driver Output for External PNP Shunt Regulator. This pin is connected to the anode of an internal 6.2V Zener with the cathode tied to OUT. In cases where lower Q current is desired but a large VSS resistor is (See Datasheet)", 9 EP (power) "The exposed pad may be left open or connected to VSS."

## LTC4366IDDB-1#TRMPBF
designator U?
High Voltage Surge Stopper, 9 to Over 500 V Vin, 8-pin SON (DDB-8), -40 to 85 degC, Pb-Free, Mini Tape and Reel; Manufacturer: Linear Technology; PartNumber: LTC4366IDDB-1#TRMPBF; Circuit Breakers(#): 1; Extended Temp: C, I, H, MP; Fast Comparator: no; DatasheetVersion: Rev. C; PackageVersion: Rev. B, 06/2010; PackageReference: DDB-8; PackageDescription: 8-Pin Plastic DFN, Body 3 x 2 mm, Pitch 0.5 mm; Supplier 1: Digi-Key; Supplier Part Number 1: LTC4366IDDB-1#TRMPBFTR-ND; Supplier 2: Digi-Key; Supplier Part Number 2: LTC4366IDDB-1#TRMPBFCT-ND; Supplier 3: Digi-Key; Supplier Part Number 3: LTC4366IDDB-1#TRMPBFDKR-ND; Supplier 4: Farnell; Supplier Part Number 4: 2097914; Packing: Mini Tape and Reel; Power Good: no; RoHS: TRUE; Vin Range: 9 to Over 500 V; Mounting Technology: Surface Mount; Code_JEDEC: MO-229; ComponentLink1Description: Manufacturer URL; ComponentLink1URL: http://www.linear.com/; ComponentLink2Description: Datasheet; ComponentLink2URL: http://cds.linear.com/docs/en/datasheet/436612fc.pdf; ComponentLink3Description: Package Specification; ComponentLink3URL: http://cds.linear.com/docs/en/packaging/DFN_8_05-08-1702.pdf
footprint LT-DDB-8_V (SON, 8-Leads, Body 3x2mm, Pitch 0.5mm, Thermal Pad 2.2x0.61mm)
pins: 1 VSS (power) "Device Return and Substrate. The capacitors on the TIMER and OUT pins should be returned to this pin.", 2 TIMER (in) "Timer Input. Leave this pin open for a 1us overvoltage regulation period before fault off. Connect a capacitor between this pin and VSS to set a 278ms/uF duration for overvoltage regulation before the switch is turned off. (See Datasheet)", 3 ~{SD} (in) "Shutdown Comparator Input. Tie to VDD if unused. Connect pin to a limited current pull down created by adding a resistor in series with an open-drain or open-collector pull-down transistor. Activating the external pull down (See Datasheet)", 4 VDD (power) "Start-Up Supply. Supply input for 7.5uA start-up current source that charges the gate of the external N-channel MOSFET. Also provides supply for timer and logic circuits active when the external MOSFET is off. This pin is (See Datasheet)", 5 GATE (out) "Gate Drive for External N-Channel MOSFET. During start-up an internal 7.5uA current source charges the gate of the external N-channel MOSFET from the VDD pin. Once the OUT voltage is above VSS by 4.75V, the charge pump will (See Datasheet)", 6 OUT (power) "Charge Pump and Overvoltage Regulation Amplifier Supply Voltage. Supply input for floating circuitry powered from the MOSFET source. Once the OUT voltage is above 4.75V (UVLO2), the charge pump will turn on and draw power (See Datasheet)", 7 FB (in) "Overvoltage Regulation Amplifier Feedback Input. Connect this pin to an external resistive divider from OUT to ground. The overvoltage regulation amplifier controls the gate of the external N-channel MOSFET to regulate the (See Datasheet)", 8 BASE (out) "Base Driver Output for External PNP Shunt Regulator. This pin is connected to the anode of an internal 6.2V Zener with the cathode tied to OUT. In cases where lower Q current is desired but a large VSS resistor is (See Datasheet)", 9 EP (power) "The exposed pad may be left open or connected to VSS."

## LTC4366IDDB-1#TRPBF
designator U?
High Voltage Surge Stopper, 9 to Over 500 V Vin, 8-pin SON (DDB-8), -40 to 85 degC, Pb-Free, Tape and Reel; Manufacturer: Linear Technology; PartNumber: LTC4366IDDB-1#TRPBF; Circuit Breakers(#): 1; Extended Temp: C, I, H, MP; Fast Comparator: no; DatasheetVersion: Rev. C; PackageVersion: Rev. B, 06/2010; PackageReference: DDB-8; PackageDescription: 8-Pin Plastic DFN, Body 3 x 2 mm, Pitch 0.5 mm; Supplier 1: Digi-Key; Supplier Part Number 1: LTC4366IDDB-1#TRPBF-ND; Packing: Tape and Reel; Power Good: no; RoHS: TRUE; Vin Range: 9 to Over 500 V; Mounting Technology: Surface Mount; Code_JEDEC: MO-229; ComponentLink1Description: Manufacturer URL; ComponentLink1URL: http://www.linear.com/; ComponentLink2Description: Datasheet; ComponentLink2URL: http://cds.linear.com/docs/en/datasheet/436612fc.pdf; ComponentLink3Description: Package Specification; ComponentLink3URL: http://cds.linear.com/docs/en/packaging/DFN_8_05-08-1702.pdf
footprint LT-DDB-8_V (SON, 8-Leads, Body 3x2mm, Pitch 0.5mm, Thermal Pad 2.2x0.61mm)
pins: 1 VSS (power) "Device Return and Substrate. The capacitors on the TIMER and OUT pins should be returned to this pin.", 2 TIMER (in) "Timer Input. Leave this pin open for a 1us overvoltage regulation period before fault off. Connect a capacitor between this pin and VSS to set a 278ms/uF duration for overvoltage regulation before the switch is turned off. (See Datasheet)", 3 ~{SD} (in) "Shutdown Comparator Input. Tie to VDD if unused. Connect pin to a limited current pull down created by adding a resistor in series with an open-drain or open-collector pull-down transistor. Activating the external pull down (See Datasheet)", 4 VDD (power) "Start-Up Supply. Supply input for 7.5uA start-up current source that charges the gate of the external N-channel MOSFET. Also provides supply for timer and logic circuits active when the external MOSFET is off. This pin is (See Datasheet)", 5 GATE (out) "Gate Drive for External N-Channel MOSFET. During start-up an internal 7.5uA current source charges the gate of the external N-channel MOSFET from the VDD pin. Once the OUT voltage is above VSS by 4.75V, the charge pump will (See Datasheet)", 6 OUT (power) "Charge Pump and Overvoltage Regulation Amplifier Supply Voltage. Supply input for floating circuitry powered from the MOSFET source. Once the OUT voltage is above 4.75V (UVLO2), the charge pump will turn on and draw power (See Datasheet)", 7 FB (in) "Overvoltage Regulation Amplifier Feedback Input. Connect this pin to an external resistive divider from OUT to ground. The overvoltage regulation amplifier controls the gate of the external N-channel MOSFET to regulate the (See Datasheet)", 8 BASE (out) "Base Driver Output for External PNP Shunt Regulator. This pin is connected to the anode of an internal 6.2V Zener with the cathode tied to OUT. In cases where lower Q current is desired but a large VSS resistor is (See Datasheet)", 9 EP (power) "The exposed pad may be left open or connected to VSS."